# EAGLE library part PAPILIO_1_ALL_WINGS (library CEDTv77)
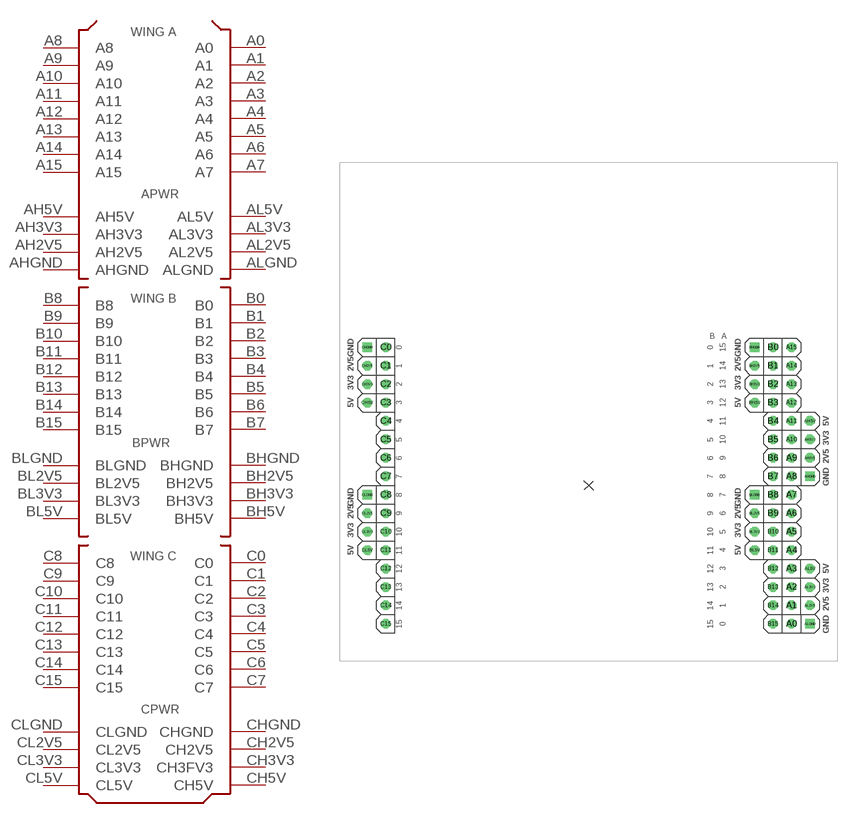
[diagram p60: symbol with the pads of PAPILIO_1_MEGAWING_FULL; footprint PAPILIO_1_MEGAWING_FULL]

Designator prefix -

## PAPILIO_1_ALL_WINGS  [PAPILIO_1_MEGAWING_FULL]
A0  A0  pas
A1  A1  pas
A2  A2  pas
A3  A3  pas
A4  A4  pas
A5  A5  pas
A6  A6  pas
A7  A7  pas
A8  A8  pas
A9  A9  pas
A10  A10  pas
A11  A11  pas
A12  A12  pas
A13  A13  pas
A14  A14  pas
A15  A15  pas
AH2V5  AH2V5  pas
AH3V3  AH3V3  pas
AH5V  AH5V  pas
AHGND  AHGND  pas
AL2V5  AL2V5  pas
AL3V3  AL3V3  pas
AL5V  AL5V  pas
ALGND  ALGND  pas
B0  B0  pas
B1  B1  pas
B2  B2  pas
B3  B3  pas
B4  B4  pas
B5  B5  pas
B6  B6  pas
B7  B7  pas
B8  B8  pas
B9  B9  pas
B10  B10  pas
B11  B11  pas
B12  B12  pas
B13  B13  pas
B14  B14  pas
B15  B15  pas
BH2V5  BH2V5  pas
BH3V3  BH3V3  pas
BH5V  BH5V  pas
BHGND  BHGND  pas
BL2V5  BL2V5  pas
BL3V3  BL3V3  pas
BL5V  BL5V  pas
BLGND  BLGND  pas
C0  C0  pas
C1  C1  pas
C2  C2  pas
C3  C3  pas
C4  C4  pas
C5  C5  pas
C6  C6  pas
C7  C7  pas
C8  C8  pas
C9  C9  pas
C10  C10  pas
C11  C11  pas
C12  C12  pas
C13  C13  pas
C14  C14  pas
C15  C15  pas
CH2V5  CH2V5  pas
CH3V3  CH3FV3  pas
CH5V  CH5V  pas
CHGND  CHGND  pas
CL2V5  CL2V5  pas
CL3V3  CL3V3  pas
CL5V  CL5V  pas
CLGND  CLGND  pas

## Footprint PAPILIO_1_MEGAWING_FULL (pad centres in mm)
drill 0.8 octagon: A0 62.23,5.08; A1 62.23,7.62; A2 62.23,10.16; A3 62.23,12.7; A4 62.23,15.24; A5 62.23,17.78; A6 62.23,20.32; A7 62.23,22.86; A8 62.23,25.4; A9 62.23,27.94; A10 62.23,30.48; A11 62.23,33.02; A12 62.23,35.56; A13 62.23,38.1; A14 62.23,40.64; A15 62.23,43.18; AH2V5 64.77,27.94; AH3V3 64.77,30.48; AH5V 64.77,33.02; AL2V5 64.77,7.62; AL3V3 64.77,10.16; AL5V 64.77,12.7; B0 59.69,43.18; B1 59.69,40.64; B2 59.69,38.1; B3 59.69,35.56; B4 59.69,33.02; B5 59.69,30.48; B6 59.69,27.94; B7 59.69,25.4; B8 59.69,22.86; B9 59.69,20.32; B10 59.69,17.78; B11 59.69,15.24; B12 59.69,12.7; B13 59.69,10.16; B14 59.69,7.62; B15 59.69,5.08; BH2V5 57.15,40.64; BH3V3 57.15,38.1; BH5V 57.15,35.56; BL2V5 57.15,20.32; BL3V3 57.15,17.78; BL5V 57.15,15.24; C0 6.35,43.18; C1 6.35,40.64; C2 6.35,38.1; C3 6.35,35.56; C4 6.35,33.02; C5 6.35,30.48; C6 6.35,27.94; C7 6.35,25.4; C8 6.35,22.86; C9 6.35,20.32; C10 6.35,17.78; C11 6.35,15.24; C12 6.35,12.7; C13 6.35,10.16; C14 6.35,7.62; C15 6.35,5.08; CH2V5 3.81,40.64; CH3V3 3.81,38.1; CH5V 3.81,35.56; CL2V5 3.81,20.32; CL3V3 3.81,17.78; CL5V 3.81,15.24
drill 0.8 square: AHGND 64.77,25.4; ALGND 64.77,5.08; BHGND 57.15,43.18; BLGND 57.15,22.86; CHGND 3.81,43.18; CLGND 3.81,22.86